# Altium schematic symbol library IHLP6767DZER470M11.SchLib: 1 symbol
Pins are listed as number, name and electrical type; pins without a type are passive.

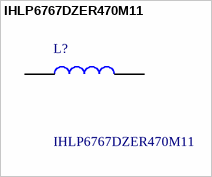
[diagram p0: symbol IHLP6767DZER470M11]

## IHLP6767DZER470M11
designator L?
Fixed Inductors 47uH 20%; Manufacturer_Name: Vishay; Geometry.Height: 4mm; Manufacturer_Part_Number: IHLP6767DZER470M11; Mouser Part Number: 70-IHLP6767DZER470M1; Mouser Price/Stock: https://www.mouser.co.uk/ProductDetail/Vishay-Dale/IHLP6767DZER470M11?qs=e2ByEPnK0IgJ3lh9QXlbaQ%3D%3D; Arrow Part Number: IHLP6767DZER470M11; Arrow Price/Stock: https://www.arrow.com/en/products/ihlp6767dzer470m11/vishay?utm_currency=USD&region=nac; Datasheet Link: https://componentsearchengine.com/Datasheets/2/IHLP6767DZER470M11.pdf
footprint IHLP6767DZER470M11
pins: 1, 2